# EAGLE library part CAMPBELL_CR6 (library UIO-John)
CR6 datalogger from www.campbellsci.com/cr6
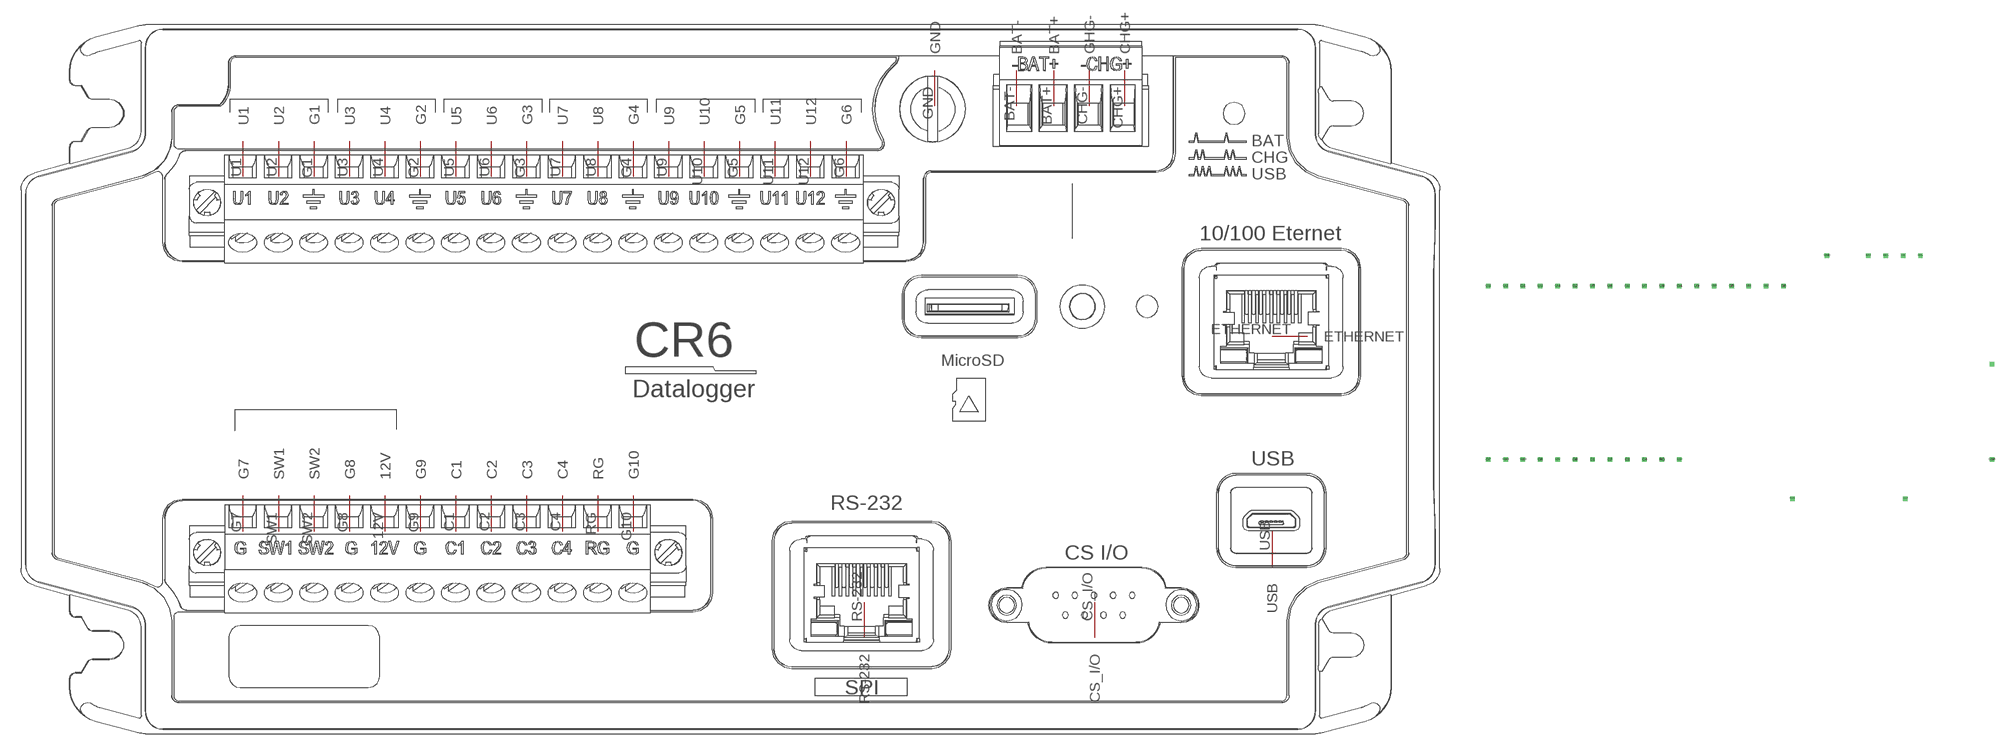
[diagram p1: symbol with the pads of CR6; footprint CR6]

Designator prefix -

## CAMPBELL_CR6  [CR6]
12V  12V
BAT+  BAT+
BAT-  BAT-
C1  C1
C2  C2
C3  C3
C4  C4
CHG+  CHG+
CHG-  GHG-
CS_I/O  CS_I/O
ETHERNET  ETHERNET
G1  G1
G2  G2
G3  G3
G4  G4
G5  G5
G6  G6
G7  G7
G8  G8
G9  G9
G10  G10
GND  GND
RG  RG
RS-232  RS-232
SW1  SW1
SW2  SW2
U1  U1
U2  U2
U3  U3
U4  U4
U5  U5
U6  U6
U7  U7
U8  U8
U9  U9
U10  U10
U11  U11
U12  U12
USB  USB

## Footprint CR6 (pad centres in mm)
drill 0.8 square: 12V -48.26,-21.59; BAT+ 47.625,38.1; BAT- 42.545,38.1; C1 -38.1,-21.59; C2 -33.02,-21.59; C3 -27.94,-21.59; C4 -22.86,-21.59; CHG+ 57.785,38.1; CHG- 52.705,38.1; CS_I/O 53.34,-33.02; ETHERNET 78.74,6.35; G1 -58.42,29.21; G2 -43.18,29.21; G3 -27.94,29.21; G4 -12.7,29.21; G5 2.54,29.21; G6 17.78,29.21; G7 -68.58,-21.59; G8 -53.34,-21.59; G9 -43.18,-21.59; G10 -12.7,-21.59; GND 30.48,38.1; RG -17.78,-21.59; RS-232 20.32,-33.02; SW1 -63.5,-21.59; SW2 -58.42,-21.59; U1 -68.58,29.21; U2 -63.5,29.21; U3 -53.34,29.21; U4 -48.26,29.21; U5 -38.1,29.21; U6 -33.02,29.21; U7 -22.86,29.21; U8 -17.78,29.21; U9 -7.62,29.21; U10 -2.54,29.21; U11 7.62,29.21; U12 12.7,29.21; USB 78.74,-21.59